# Altium schematic symbol library jfc2410-0500ts.SchLib: 1 symbol
Pins are listed as number, name and electrical type; pins without a type are passive.

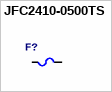
[diagram p0: symbol JFC2410-0500TS]

## JFC2410-0500TS
designator F?
FUSE 0.5A 250V SMD
pins: 1, 2